# Altium footprint library Motorsteuerung.PcbLib: 21 footprints (part 1 of 2)
Each footprint in its own frame and in the unit in brackets; x right, y up, seen from the top. Pads: shape width x height; smd on the part's side, far side on the other; paste and mask are expansions set on the pad; w line width, h text height; cw(c..) or ccw(c..) is an arc to the next point about the centre after c.
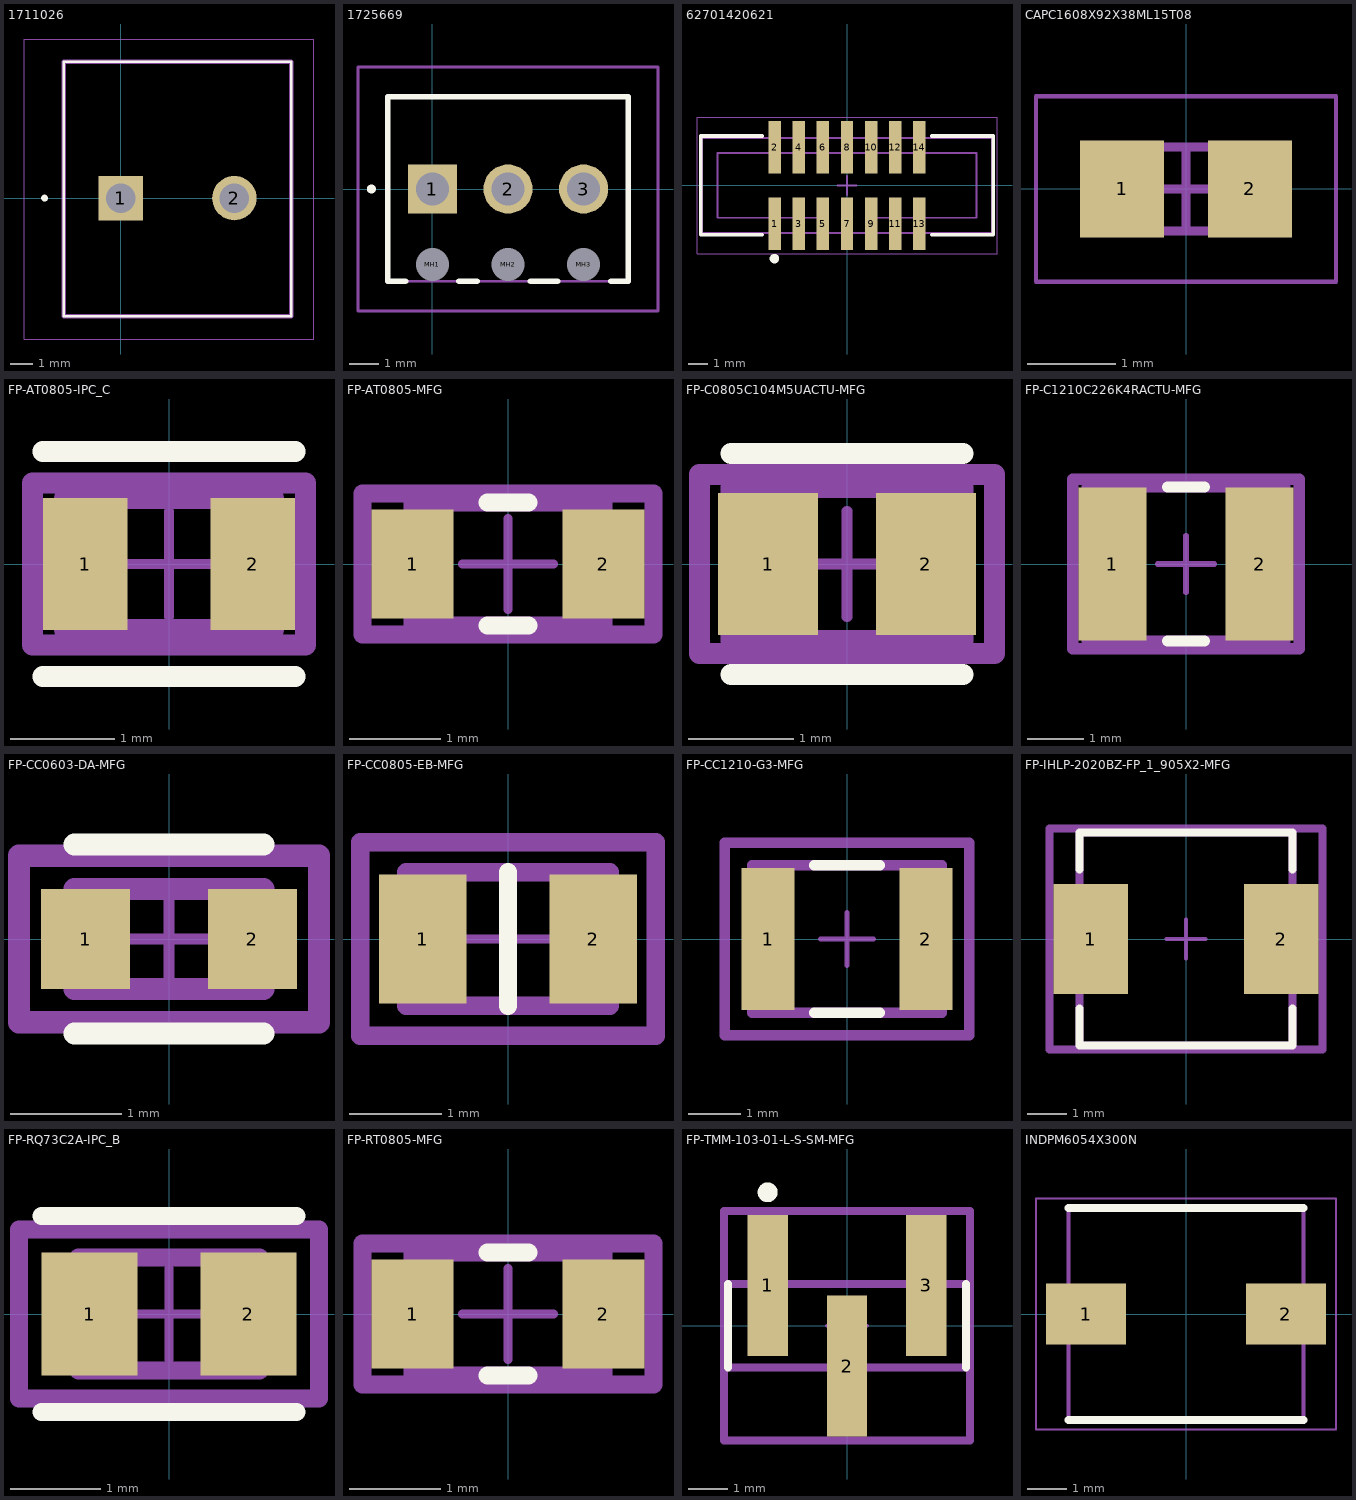
[diagram p0: the footprints below, top view; thin cyan lines are the x and y axes]

## 1711026 [mm]
pads (2):
  rect 1.95x1.95 hole 1.3: 1(0,0)
  round 1.95 hole 1.3: 2(5,0)
Top Overlay:
  circle w0.2: c-3.35,0 r0.05
  lines w0.1: -2.5,-5.2 -2.5,6 7.5,6 7.5,-5.2 -2.5,-5.2
Top 3D Body:
  lines w0.2: -2.5,-5.2 -2.5,6 7.5,6 7.5,-5.2 -2.5,-5.2
Top Courtyard:
  lines w0.05: -4.25,-6.2 -4.25,7 8.5,7 8.5,-6.2 -4.25,-6.2
3D body "1711026.stp": height 18, standoff -5, extent -3.18,-5.17 7.42,5.98

## 1725669 [mm]
pads (6):
  rect 1.65x1.65 hole 1.1: 1(0,0)
  round 1.65 hole 1.1: 2(2.54,0) 3(5.08,0)
  round 0.55 hole 1.1 unplated: MH1(0,-2.54) MH2(2.54,-2.54) MH3(5.08,-2.54)
Top Overlay:
  lines w0.2: -0.9,-3.1 -1.5,-3.1 -1.5,3.1 6.58,3.1 6.58,-3.1 6,-3.1 ; 0.9,-3.1 1.5,-3.1 ; 3.3,-3.1 4.2,-3.1 ; -2.1,0 ccw(c-2.05,0) -2,0 ; -2.1,0 cw(c-2.05,0) -2,0 ; -2.1,0 ccw(c-2.05,0) -2,0
Top 3D Body:
  lines w0.1: -1.5,-3.1 6.58,-3.1 6.58,3.1 -1.5,3.1 -1.5,-3.1
Top Courtyard:
  lines w0.1: -2.5,-4.1 7.58,-4.1 7.58,4.1 -2.5,4.1 -2.5,-4.1
3D body "1725669.stp": height 8.5, standoff -3.5, extent -1.536,-3.152 6.604,3.048

## 62701420621 [mm] "Boc Header SMT type, 14p"
height 5.3
pads (14):
  rect 0.65x2.76 smd: 1(-3.81,-2.02) 2(-3.81,2.02) 3(-2.54,-2.02) 4(-2.54,2.02) 5(-1.27,-2.02) 6(-1.27,2.02) 7(0,-2.02) 8(0,2.02) 9(1.27,-2.02) 10(1.27,2.02) 11(2.54,-2.02) 12(2.54,2.02) 13(3.81,-2.02) 14(3.81,2.02)
Top Overlay:
  circle w0.25: c-3.82,-3.85 r0.125
  lines w0.2: -4.47,-2.6 -7.695,-2.6 -7.695,2.6 -4.47,2.6 ; 4.47,-2.6 7.695,-2.6 7.695,2.6 4.47,2.6
Top Assembly:
  lines w0.1: -1.2,-2.5 -1.2,-1.7 -6.82,-1.7 -6.82,1.7 6.82,1.7 6.82,-1.7 1.2,-1.7 1.2,-2.5 ; -7.62,-2.5 7.62,-2.5 7.62,2.5 -7.62,2.5 -7.62,-2.5
Top Designator:
  text ".Designator" at -3.647,-0.357 h1
Top 3D Body:
  lines w0.1: -1.2,-2.5 -1.2,-1.7 -6.82,-1.7 -6.82,1.7 6.82,1.7 6.82,-1.7 1.2,-1.7 1.2,-2.5 ; -7.62,-2.5 -7.62,2.5 7.62,2.5 7.62,-2.5 -7.62,-2.5
Top Courtyard:
  lines w0.05: -7.895,-3.6 7.895,-3.6 7.895,3.6 -7.895,3.6 -7.895,-3.6
Top Component Center:
  lines w0.1: -0.5,0 0.5,0 ; 0,-0.5 0,0.5
3D body "62701420621.stp": height 5.2, standoff -0.04, extent -7.62,-2.8 7.62,2.8

## CAPC1608X92X38ML15T08 [mm] "Chip Capacitor, 2-Leads, Body 1.60x0.80mm, IPC Low Density"
height 0.92
pads (2):
  rect 0.95x1.1 smd: 1(-0.725,0) 2(0.725,0)
Top 3D Body:
  lines w0.1: -0.875,-0.475 0.875,-0.475 0.875,0.475 -0.875,0.475 -0.875,-0.475
Top Courtyard:
  lines w0.05: -1.7,-1.05 1.7,-1.05 1.7,1.05 -1.7,1.05 -1.7,-1.05
  lines w0.1: -0.475,0 0.475,0 ; 0,-0.475 0,0.475
3D body: height 0.92, standoff 0, extent 0.495,-0.475 0.875,0.475
3D body: height 0.92, standoff 0, extent -0.875,-0.475 -0.495,0.475
3D body: height 0.92, standoff 0, extent -0.495,-0.475 0.495,0.475

## FP-AT0805-IPC_C [mm]
pads (2):
  rect 0.808x1.262 smd paste+0 mask+0: 1(-0.802,0) 2(0.802,0)
Top Overlay:
  lines w0.2: -1.206,-1.075 1.206,-1.075 ; -1.206,1.075 1.206,1.075
Top Assembly:
  lines w0.2: -1.306,-0.775 -1.306,0.775 1.306,0.775 1.306,-0.775 -1.306,-0.775
  text ".Designator" at 0,0.188 h1
Top 3D Body:
  lines w0.2: -1,-0.625 -1,0.625 1,0.625 1,-0.625 -1,-0.625
Top Courtyard:
  lines w0.2: -1.306,-0.775 -1.306,0.775 1.306,0.775 1.306,-0.775 -1.306,-0.775
Top Component Center:
  lines w0.1: -0.5,0 0.5,0 ; 0,-0.5 0,0.5
3D body "Res_Yageo_AT0805BRA0710KL_eec.STEP": height 0.25, standoff 0, extent -1.306,-0.775 1.306,0.775

## FP-AT0805-MFG [mm]
pads (2):
  rect 0.9x1.2 smd paste+0 mask+0: 1(-1.05,0) 2(1.05,0)
Top Overlay:
  lines w0.2: -0.225,-0.675 0.225,-0.675 ; -0.225,0.675 0.225,0.675
Top Assembly:
  lines w0.2: -1.6,-0.775 -1.6,0.775 1.6,0.775 1.6,-0.775 -1.6,-0.775
  text ".Designator" at 0,0.188 h1
Top 3D Body:
  lines w0.2: -1.05,-0.675 -1.05,0.675 1.05,0.675 1.05,-0.675 -1.05,-0.675
Top Courtyard:
  lines w0.2: -1.6,-0.775 -1.6,0.775 1.6,0.775 1.6,-0.775 -1.6,-0.775
Top Component Center:
  lines w0.1: -0.5,0 0.5,0 ; 0,-0.5 0,0.5
3D body "Res_Yageo_AT0805BRA0710KL_eec.STEP": height 0.25, standoff 0, extent -1.6,-0.775 1.6,0.775

## FP-C0805C104M5UACTU-MFG [mm]
pads (2):
  rect 0.95x1.35 smd paste+0 mask+0: 1(-0.75,0) 2(0.75,0)
Top Overlay:
  lines w0.2: -1.1,-1.05 1.1,-1.05 ; -1.1,1.05 1.1,1.05
Top Assembly:
  lines w0.2: -1.4,-0.85 -1.4,0.85 1.4,0.85 1.4,-0.85 -1.4,-0.85
  text ".Designator" at 0,0.188 h1
Top 3D Body:
  lines w0.2: -1.1,-0.725 -1.1,0.725 1.1,0.725 1.1,-0.725 -1.1,-0.725
Top Courtyard:
  lines w0.2: -1.4,-0.85 -1.4,0.85 1.4,0.85 1.4,-0.85 -1.4,-0.85
Top Component Center:
  lines w0.1: -0.5,0 0.5,0 ; 0,-0.5 0,0.5
3D body "Cap_Kemet_C0805C104M5UACTU_eec.STEP": height 0.25, standoff 0, extent -1.4,-0.85 1.4,0.85

## FP-C1210C226K4RACTU-MFG [mm]
pads (2):
  rect 1.2x2.7 smd paste+0 mask+0: 1(-1.3,0) 2(1.3,0)
Top Overlay:
  lines w0.2: -0.325,-1.36 0.325,-1.36 ; -0.325,1.36 0.325,1.36
Top Assembly:
  lines w0.2: -2,-1.5 -2,1.5 2,1.5 2,-1.5 -2,-1.5
  text ".Designator" at 0,0.188 h1
Top 3D Body:
  lines w0.2: -1.75,-1.36 -1.75,1.36 1.75,1.36 1.75,-1.36 -1.75,-1.36
Top Courtyard:
  lines w0.2: -2,-1.5 -2,1.5 2,1.5 2,-1.5 -2,-1.5
Top Component Center:
  lines w0.1: -0.5,0 0.5,0 ; 0,-0.5 0,0.5
3D body "Cap_KEMET_C1210C226K4RACTU_eec.STEP": height 0.25, standoff 0, extent -2,-1.5 2,1.5

## FP-CC0603-DA-MFG [mm]
pads (2):
  rect 0.8x0.9 smd paste+0 mask+0: 1(-0.75,0) 2(0.75,0)
Top Overlay:
  lines w0.2: -0.85,-0.85 0.85,-0.85 ; -0.85,0.85 0.85,0.85
Top Assembly:
  lines w0.2: -1.35,-0.75 -1.35,0.75 1.35,0.75 1.35,-0.75 -1.35,-0.75
  text ".Designator" at 0,0.188 h1
Top 3D Body:
  lines w0.2: -0.85,-0.45 -0.85,0.45 0.85,0.45 0.85,-0.45 -0.85,-0.45
Top Courtyard:
  lines w0.2: -1.35,-0.75 -1.35,0.75 1.35,0.75 1.35,-0.75 -1.35,-0.75
Top Component Center:
  lines w0.1: -0.5,0 0.5,0 ; 0,-0.5 0,0.5
3D body "Cap_YAGEO_CC0603KRX7R9BB271_eec.STEP": height 0.25, standoff 0, extent -1.35,-0.75 1.35,0.75

## FP-CC0805-EB-MFG [mm]
pads (2):
  rect 0.95x1.4 smd paste+0 mask+0: 1(-0.925,0) 2(0.925,0)
Top Overlay:
  lines w0.2: 0,-0.725 0,0.725
Top Assembly:
  lines w0.2: -1.6,-1.05 -1.6,1.05 1.6,1.05 1.6,-1.05 -1.6,-1.05
  text ".Designator" at 0,-0.001 h1
Top 3D Body:
  lines w0.2: -1.1,-0.725 -1.1,0.725 1.1,0.725 1.1,-0.725 -1.1,-0.725
Top Courtyard:
  lines w0.2: -1.6,-1.05 -1.6,1.05 1.6,1.05 1.6,-1.05 -1.6,-1.05
Top Component Center:
  lines w0.1: -0.5,0 0.5,0 ; 0,-0.5 0,0.5
3D body "Cap_Yageo_CC0805KKX7RYBB104_eec.STEP": height 0.25, standoff 0, extent -1.6,-1.05 1.6,1.05

## FP-CC1210-G3-MFG [mm]
pads (2):
  rect 1x2.7 smd paste+0 mask+0: 1(-1.5,0) 2(1.5,0)
Top Overlay:
  lines w0.2: -0.625,-1.4 0.625,-1.4 ; -0.625,1.4 0.625,1.4
Top Assembly:
  lines w0.2: -2.325,-1.825 -2.325,1.825 2.325,1.825 2.325,-1.825 -2.325,-1.825
  text ".Designator" at 0,0.188 h1
Top 3D Body:
  lines w0.2: -1.8,-1.4 -1.8,1.4 1.8,1.4 1.8,-1.4 -1.8,-1.4
Top Courtyard:
  lines w0.2: -2.325,-1.825 -2.325,1.825 2.325,1.825 2.325,-1.825 -2.325,-1.825
Top Component Center:
  lines w0.1: -0.5,0 0.5,0 ; 0,-0.5 0,0.5
3D body "Cap_Yageo_CC1210KKX7R8BB225_eec.STEP": height 0.25, standoff 0, extent -2.325,-1.825 2.325,1.825

## FP-IHLP-2020BZ-FP_1_905X2-MFG [mm]
pads (2):
  rect 1.905x2.79 smd paste+0 mask+0: 1(-2.425,0) 2(2.425,0)
Top Overlay:
  lines w0.2: -2.717,-1.77 -2.717,-2.717 2.717,-2.717 2.717,-1.77 ; -2.717,1.77 -2.717,2.717 2.717,2.717 2.717,1.77
Top Assembly:
  lines w0.2: -3.478,-2.817 -3.478,2.817 3.478,2.817 3.478,-2.817 -3.478,-2.817
  text ".Designator" at 0,0.188 h1
Top 3D Body:
  lines w0.2: -2.717,-2.717 -2.717,2.717 2.717,2.717 2.717,-2.717 -2.717,-2.717
Top Courtyard:
  lines w0.2: -3.478,-2.817 -3.478,2.817 3.478,2.817 3.478,-2.817 -3.478,-2.817
Top Component Center:
  lines w0.1: -0.5,0 0.5,0 ; 0,-0.5 0,0.5
3D body "Ind_Vishay_IHLP2020BZER100M11_eec.STEP": height 0.25, standoff 0, extent -3.478,-2.817 3.478,2.817

## FP-RQ73C2A-IPC_B [mm]
pads (2):
  rect 1.058x1.362 smd paste+0 mask+0: 1(-0.877,0) 2(0.877,0)
Top Overlay:
  lines w0.2: -1.406,-1.081 1.406,-1.081 ; -1.406,1.081 1.406,1.081
Top Assembly:
  lines w0.2: -1.656,-0.931 -1.656,0.931 1.656,0.931 1.656,-0.931 -1.656,-0.931
  text ".Designator" at 0,0.188 h1
Top 3D Body:
  lines w0.2: -1,-0.625 -1,0.625 1,0.625 1,-0.625 -1,-0.625
Top Courtyard:
  lines w0.2: -1.656,-0.931 -1.656,0.931 1.656,0.931 1.656,-0.931 -1.656,-0.931
Top Component Center:
  lines w0.1: -0.5,0 0.5,0 ; 0,-0.5 0,0.5
3D body "Res_TE_Connectivity_RQ73C2A10R7BTD_eec.STEP": height 0.25, standoff 0, extent -1.656,-0.931 1.656,0.931

## FP-RT0805-MFG [mm]
pads (2):
  rect 0.9x1.2 smd paste+0 mask+0: 1(-1.05,0) 2(1.05,0)
Top Overlay:
  lines w0.2: -0.225,-0.675 0.225,-0.675 ; -0.225,0.675 0.225,0.675
Top Assembly:
  lines w0.2: -1.6,-0.775 -1.6,0.775 1.6,0.775 1.6,-0.775 -1.6,-0.775
  text ".Designator" at 0,0.188 h1
Top 3D Body:
  lines w0.2: -1.05,-0.675 -1.05,0.675 1.05,0.675 1.05,-0.675 -1.05,-0.675
Top Courtyard:
  lines w0.2: -1.6,-0.775 -1.6,0.775 1.6,0.775 1.6,-0.775 -1.6,-0.775
Top Component Center:
  lines w0.1: -0.5,0 0.5,0 ; 0,-0.5 0,0.5
3D body "Res_Yageo_RT0805WRB07165RL_eec.STEP": height 0.25, standoff 0, extent -1.6,-0.775 1.6,0.775

## FP-TMM-103-01-L-S-SM-MFG [mm]
pads (3):
  rect 1.02x3.56 smd paste+0 mask+0: 1(-2,1.015) 2(0,-1.015) 3(2,1.015)
Top Overlay:
  circle w0.25: c-2,3.363 r0.125
  lines w0.2: -3,-1.054 -3,1.054 ; 3,-1.054 3,1.054
Top Assembly:
  lines w0.2: -3.1,-2.895 -3.1,2.895 3.1,2.895 3.1,-2.895 -3.1,-2.895
  text ".Designator" at 0,-0.001 h1
Top 3D Body:
  lines w0.2: -3,-1.054 -3,1.054 3,1.054 3,-1.054 -3,-1.054
Top Courtyard:
  lines w0.2: -3.1,-2.895 -3.1,2.895 3.1,2.895 3.1,-2.895 -3.1,-2.895
Top Component Center:
  lines w0.1: -0.5,0 0.5,0 ; 0,-0.5 0,0.5
3D body "Conn_Samtec_TMM-103-01-L-S-SM_eec.STEP": height 0.25, standoff 0, extent -3.1,-2.895 3.1,2.895

## INDPM6054X300N [mm]
pads (2):
  rect 2.05x1.55 smd: 1(-2.55,0) 2(2.55,0)
Top Overlay:
  lines w0.2: -3,-2.7 3,-2.7 ; -3,2.7 3,2.7
Top 3D Body:
  lines w0.1: -3,-2.7 3,-2.7 3,2.7 -3,2.7 -3,-2.7
Top Courtyard:
  lines w0.05: -3.825,-2.95 3.825,-2.95 3.825,2.95 -3.825,2.95 -3.825,-2.95
3D body "PA4340.332NLT.stp": height 3, standoff 0, extent -3,-2.7 3,2.7